# Altium footprint library PcbLib1.PcbLib: 259 footprints (part 17 of 17)
Each footprint in its own frame and in the unit in brackets; x right, y up, seen from the top. Pads: shape width x height; smd on the part's side, far side on the other; paste and mask are expansions set on the pad; w line width, h text height; cw(c..) or ccw(c..) is an arc to the next point about the centre after c.
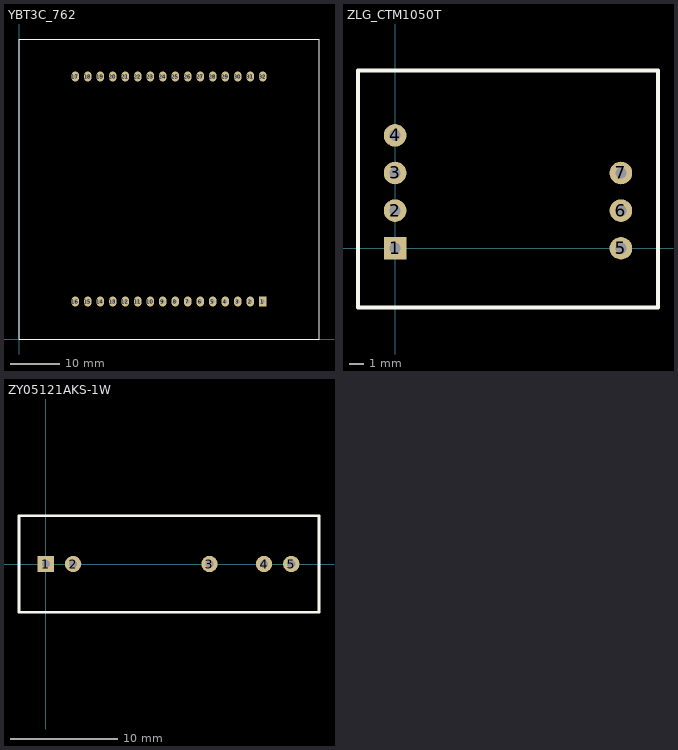
[diagram p16: the footprints below, top view; thin cyan lines are the x and y axes]

## YBT3C_762 [mil]
pads (32):
  rect 60x80 hole 30: 1(1950,300)
  oval 60x80 hole 30: 2(1850,300) 3(1750,300) 4(1650,300) 5(1550,300) 6(1450,300) 7(1350,300) 8(1250,300) 9(1150,300) 10(1050,300) 11(950,300) 12(850,300) 13(750,300) 14(650,300) 15(550,300) 16(450,300) 17(450,2100) 18(550,2100) 19(650,2100) 20(750,2100) 21(850,2100) 22(950,2100) 23(1050,2100) 24(1150,2100) 25(1250,2100) 26(1350,2100) 27(1450,2100) 28(1550,2100) 29(1650,2100) 30(1750,2100) 31(1850,2100) 32(1950,2100)
Top Overlay:
  lines w10: 0,0 0,2400 2400,2400 2400,0 0,0

## ZLG_CTM1050T [mil]
pads (7):
  rect 60x60 hole 30: 1(0,0)
  round 60 hole 30: 2(0,100) 3(0,200) 4(0,300) 5(600,0) 6(600,100) 7(600,200)
Top Overlay:
  lines w10: -98.43,-157.48 698.43,-157.48 698.43,472.44 -98.43,472.44 -98.43,-157.48

## ZY05121AKS-1W [mil]
pads (5):
  rect 60x60 hole 30: 1(0,0)
  round 60 hole 30: 2(100,0) 3(600,0) 4(800,0) 5(900,0)
Top Overlay:
  lines w10: -98.43,-177.17 -98.43,177.17 1001.57,177.17 1001.57,-177.17 -98.43,-177.17